# Altium footprint library DIODE_TH_DO35.PcbLib: 2 footprints
Each footprint in its own frame and in the unit in brackets; x right, y up, seen from the top. Pads: shape width x height; smd on the part's side, far side on the other; paste and mask are expansions set on the pad; w line width, h text height; cw(c..) or ccw(c..) is an arc to the next point about the centre after c.
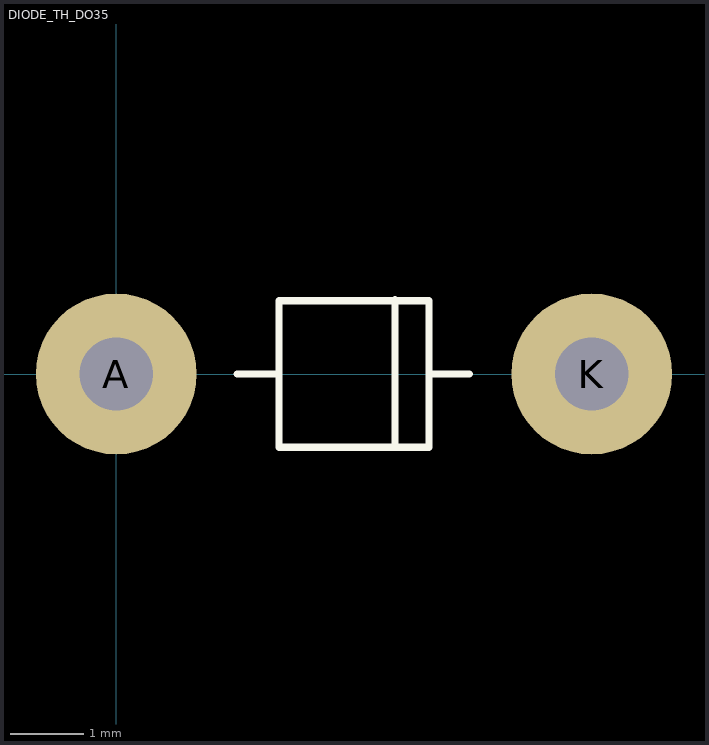
[diagram p0: the footprints below, top view; thin cyan lines are the x and y axes]

## DIODE_TH_DO35 [mm]
pads (2):
  round 2.2 hole 1: A(0,0) K(6.5,0)
Top Overlay:
  lines w0.1: 1.651,0 2.159,0 ; 3.81,-0.984 3.81,1.016 ; 4.318,0 4.826,0 ; 2.225,1 4.275,1 ; 2.225,1 4.275,1 ; 2.225,1 2.225,-1 4.275,-1 4.275,0 4.275,1

## PCBComponent_1 [mm]